# Altium schematic symbol library TB002-500-02BE.SchLib: 1 symbol
Pins are listed as number, name and electrical type; pins without a type are passive.

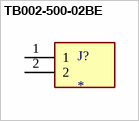
[diagram p0: symbol TB002-500-02BE]

## TB002-500-02BE
designator J?
MP: TB002-500-02BE; MF: {'manufacturer': u'CUI Devices'}; Package: None; Value: *; Availability: Unavailable; Price: None
footprint CUI_TB002-500-02BE
pins: 1, 2